# EAGLE library part STM32F4_64 (library controller)
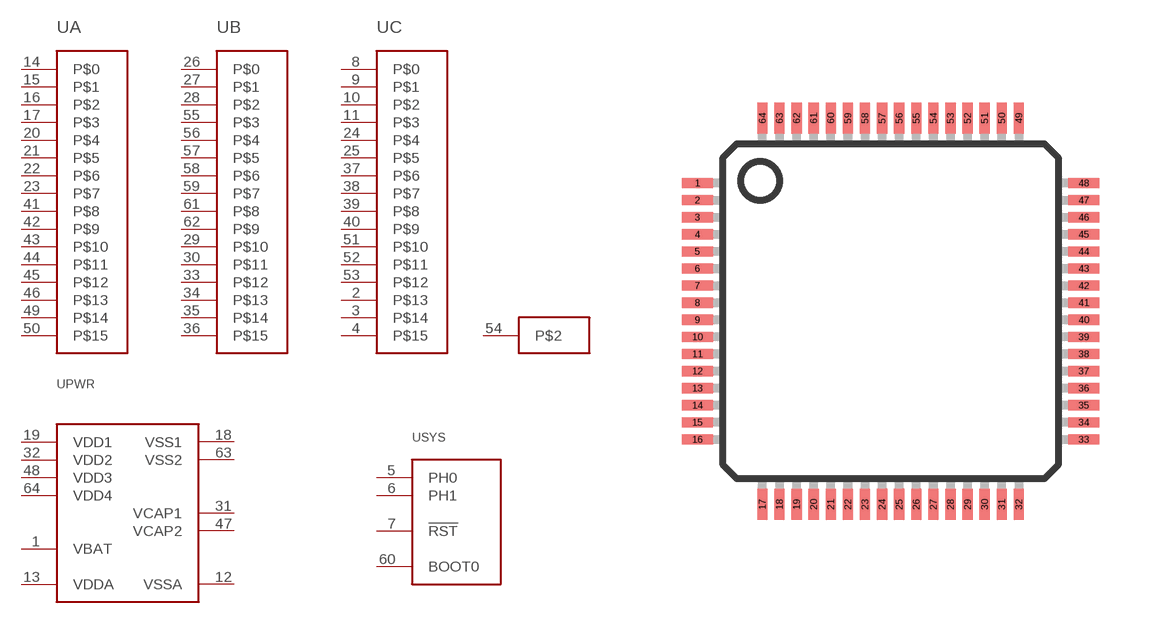
[diagram p1: symbol with the pads of LQFP-ST-64-2; footprint LQFP-ST-64-2]

Designator prefix -; gates A=GPIO_16-1 B=GPIO_16-1 C=GPIO_16-1 D=GPIO_D2 PWR=STM32F4_100_PWR SYS=STM32F4_CTL-1

## STM32F4_64  [LQFP-ST-64-2]
1  PWR:VBAT
2  C:P$13
3  C:P$14
4  C:P$15
5  SYS:PH0
6  SYS:PH1
7  SYS:!RST
8  C:P$0
9  C:P$1
10  C:P$2
11  C:P$3
12  PWR:VSSA
13  PWR:VDDA
14  A:P$0
15  A:P$1
16  A:P$2
17  A:P$3
18  PWR:VSS1
19  PWR:VDD1
20  A:P$4
21  A:P$5
22  A:P$6
23  A:P$7
24  C:P$4
25  C:P$5
26  B:P$0
27  B:P$1
28  B:P$2
29  B:P$10
30  B:P$11
31  PWR:VCAP1
32  PWR:VDD2
33  B:P$12
34  B:P$13
35  B:P$14
36  B:P$15
37  C:P$6
38  C:P$7
39  C:P$8
40  C:P$9
41  A:P$8
42  A:P$9
43  A:P$10
44  A:P$11
45  A:P$12
46  A:P$13
47  PWR:VCAP2
48  PWR:VDD3
49  A:P$14
50  A:P$15
51  C:P$10
52  C:P$11
53  C:P$12
54  D:P$2
55  B:P$3
56  B:P$4
57  B:P$5
58  B:P$6
59  B:P$7
60  SYS:BOOT0
61  B:P$8
62  B:P$9
63  PWR:VSS2
64  PWR:VDD4

## Footprint LQFP-ST-64-2 (pad centres in mm)
64-Lead Low Profile Quad Flat Package [LQFP] (ST-64-2) COMPLIANT TO JEDEC STANDARDS MS-026-BCD Source: http://www.analog.com/UploadedFiles/Data_Sheets/288945048AD7C7019_20_1_2_4_5_6_7_0.pdf
smd 0.9 x 0.3: 1 -5.65,3.75; 2 -5.65,3.25; 3 -5.65,2.75; 4 -5.65,2.25; 5 -5.65,1.75; 6 -5.65,1.25; 7 -5.65,0.75; 8 -5.65,0.25; 9 -5.65,-0.25; 10 -5.65,-0.75; 11 -5.65,-1.25; 12 -5.65,-1.75; 13 -5.65,-2.25; 14 -5.65,-2.75; 15 -5.65,-3.25; 16 -5.65,-3.75; 33 5.65,-3.75; 34 5.65,-3.25; 35 5.65,-2.75; 36 5.65,-2.25; 37 5.65,-1.75; 38 5.65,-1.25; 39 5.65,-0.75; 40 5.65,-0.25; 41 5.65,0.25; 42 5.65,0.75; 43 5.65,1.25; 44 5.65,1.75; 45 5.65,2.25; 46 5.65,2.75; 47 5.65,3.25; 48 5.65,3.75
smd 0.3 x 0.9: 17 -3.75,-5.65; 18 -3.25,-5.65; 19 -2.75,-5.65; 20 -2.25,-5.65; 21 -1.75,-5.65; 22 -1.25,-5.65; 23 -0.75,-5.65; 24 -0.25,-5.65; 25 0.25,-5.65; 26 0.75,-5.65; 27 1.25,-5.65; 28 1.75,-5.65; 29 2.25,-5.65; 30 2.75,-5.65; 31 3.25,-5.65; 32 3.75,-5.65; 49 3.75,5.65; 50 3.25,5.65; 51 2.75,5.65; 52 2.25,5.65; 53 1.75,5.65; 54 1.25,5.65; 55 0.75,5.65; 56 0.25,5.65; 57 -0.25,5.65; 58 -0.75,5.65; 59 -1.25,5.65; 60 -1.75,5.65; 61 -2.25,5.65; 62 -2.75,5.65; 63 -3.25,5.65; 64 -3.75,5.65